# EAGLE library part ASMT (library OPTO)
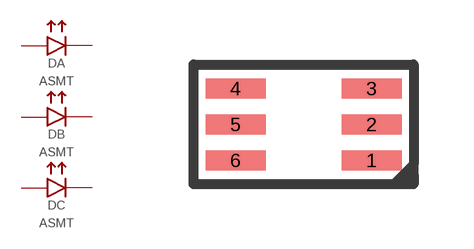
[diagram p3: symbol with the pads of ASMT; footprint ASMT]

Designator prefix D; gates A=LED B=LED C=LED

## ASMT  [ASMT]
1  C:K
2  B:K
3  A:K
4  A:A
5  B:A
6  C:A

## Footprint ASMT (pad centres in mm)
smd 1.5 x 0.5: 1 1.7,-0.9; 2 1.7,0; 3 1.7,0.9; 4 -1.7,0.9; 5 -1.7,0; 6 -1.7,-0.9